# Altium footprint library WL-OCDA.PcbLib: 6 footprints
Each footprint in its own frame and in the unit in brackets; x right, y up, seen from the top. Pads: shape width x height; smd on the part's side, far side on the other; paste and mask are expansions set on the pad; w line width, h text height; cw(c..) or ccw(c..) is an arc to the next point about the centre after c.
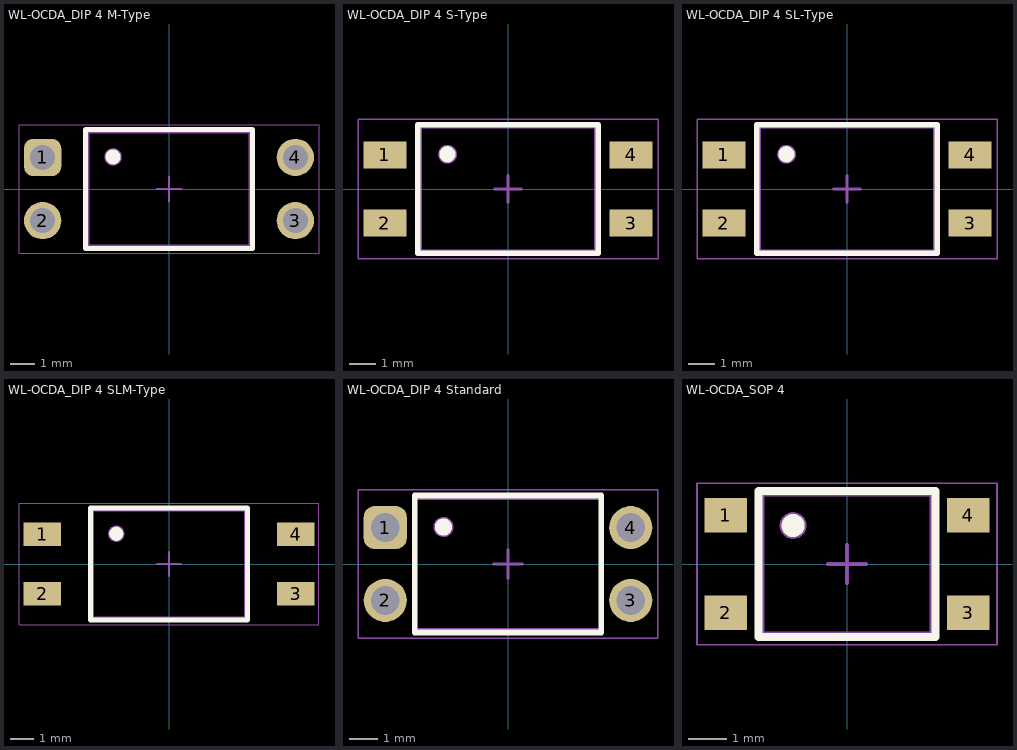
[diagram p0: the footprints below, top view; thin cyan lines are the x and y axes]

## WL-OCDA_DIP 4 M-Type [mm] "Phototransistor, THT, body 10.16x4.58mm"
height 4.58
pads (4):
  rrect50% 1.5x1.5 hole 1: 1(-5.08,1.27)
  round 1.5 hole 1: 2(-5.08,-1.27) 3(5.08,-1.27) 4(5.08,1.27)
Top Overlay:
  circle w0.3: c-2.25,1.29 r0.15
  lines w0.2: -3.35,-2.39 3.35,-2.39 3.35,2.39 -3.35,2.39 -3.35,-2.39
Top Assembly:
  circle w0.1: c-2.25,1.29 r0.3
  lines w0.1: -3.25,-2.29 3.25,-2.29 3.25,2.29 -3.25,2.29 -3.25,-2.29
Top Designator:
  text ".Designator" at -3.647,-0.357 h1
Top Courtyard:
  lines w0.05: -6.03,-2.59 -6.03,2.59 6.03,2.59 6.03,-2.59 -6.03,-2.59
Top Component Center:
  lines w0.1: -0.5,0 0.5,0 ; 0,-0.5 0,0.5
3D body "DIP4_815(M).stp": height 4.25, standoff -2.52, extent -5.205,-2.29 5.205,2.29

## WL-OCDA_DIP 4 S-Type [mm] "Phototransistor, SMT, body 10.15x4.58mm"
height 4.3
pads (4):
  rect 1.6x1 smd: 1(-4.575,1.27) 2(-4.575,-1.27) 3(4.575,-1.27) 4(4.575,1.27)
Top Overlay:
  circle w0.3: c-2.25,1.29 r0.15
  lines w0.2: -3.35,-2.39 3.35,-2.39 3.35,2.39 -3.35,2.39 -3.35,-2.39
Top Assembly:
  circle w0.1: c-2.25,1.29 r0.3
  lines w0.1: -3.25,-2.29 3.25,-2.29 3.25,2.29 -3.25,2.29 -3.25,-2.29
Top Designator:
  text ".Designator" at -3.647,-0.357 h1
Top Courtyard:
  lines w0.05: -5.575,-2.59 -5.575,2.59 5.575,2.59 5.575,-2.59 -5.575,-2.59
Top Component Center:
  lines w0.1: -0.5,0 0.5,0 ; 0,-0.5 0,0.5
3D body "DIP4_815(S).stp": height 4.3, standoff -0.01, extent -5.075,-2.29 5.075,2.29

## WL-OCDA_DIP 4 SL-Type [mm] "Phototransistor, SMT, body 10.15x4.58mm"
height 3.6
pads (4):
  rect 1.6x1 smd: 1(-4.575,1.27) 2(-4.575,-1.27) 3(4.575,-1.27) 4(4.575,1.27)
Top Overlay:
  circle w0.3: c-2.25,1.29 r0.15
  lines w0.2: -3.35,-2.39 3.35,-2.39 3.35,2.39 -3.35,2.39 -3.35,-2.39
Top Assembly:
  circle w0.1: c-2.25,1.29 r0.3
  lines w0.1: -3.25,-2.29 3.25,-2.29 3.25,2.29 -3.25,2.29 -3.25,-2.29
Top Designator:
  text ".Designator" at -3.647,-0.357 h1
Top Courtyard:
  lines w0.05: -5.575,-2.59 -5.575,2.59 5.575,2.59 5.575,-2.59 -5.575,-2.59
Top Component Center:
  lines w0.1: -0.5,0 0.5,0 ; 0,-0.5 0,0.5
3D body "DIP4_815(SL).stp": height 3.6, standoff -0.01, extent -5.075,-2.29 5.075,2.29

## WL-OCDA_DIP 4 SLM-Type [mm] "Phototransistor, SMT, body 10.16x4.58mm"
height 3.75
pads (4):
  rect 1.6x1 smd: 1(-5.4,1.27) 2(-5.4,-1.27) 3(5.4,-1.27) 4(5.4,1.27)
Top Overlay:
  circle w0.3: c-2.25,1.29 r0.15
  lines w0.2: -3.35,-2.39 -3.35,2.39 3.35,2.39 3.35,-2.39 -3.35,-2.39
Top Assembly:
  circle w0.1: c-2.25,1.29 r0.3
  lines w0.1: -3.25,-2.29 -3.25,2.29 3.25,2.29 3.25,-2.29 -3.25,-2.29
Top Designator:
  text ".Designator" at -3.647,-0.357 h1
Top Courtyard:
  lines w0.05: -6.4,-2.59 6.4,-2.59 6.4,2.59 -6.4,2.59 -6.4,-2.59
Top Component Center:
  lines w0.1: -0.5,0 0.5,0 ; 0,-0.5 0,0.5
3D body "DIP4_815(SLM).stp": height 3.75, standoff 0, extent -5.9,-2.29 5.9,2.29

## WL-OCDA_DIP 4 Standard [mm] "Phototransistor, THT, body 7.62x4.58mm"
height 4.5
pads (4):
  rrect50% 1.5x1.5 hole 1: 1(-4.28,1.27)
  round 1.5 hole 1: 2(-4.28,-1.27) 3(4.28,-1.27) 4(4.28,1.27)
Top Overlay:
  circle w0.3: c-2.25,1.29 r0.15
  lines w0.2: -3.25,-2.39 3.25,-2.39 3.25,2.39 -3.25,2.39 -3.25,-2.39
Top Assembly:
  circle w0.1: c-2.25,1.29 r0.3
  lines w0.1: -3.25,-2.29 3.25,-2.29 3.25,2.29 -3.25,2.29 -3.25,-2.29
Top Designator:
  text ".Designator" at -3.647,-0.357 h1
Top Courtyard:
  lines w0.05: -5.23,-2.59 -5.23,2.59 5.23,2.59 5.23,-2.59 -5.23,-2.59
Top Component Center:
  lines w0.1: -0.5,0 0.5,0 ; 0,-0.5 0,0.5
3D body "DIP4_815_Standard.stp": height 4.45, standoff -2.86, extent -4.377,-2.29 4.377,2.29

## WL-OCDA_SOP 4 [mm] "Phototransistor, SMT, body 7x3.6mm"
height 2.1
pads (4):
  rect 1.1x0.9 smd: 1(-3.15,1.27) 2(-3.15,-1.27) 3(3.15,-1.27) 4(3.15,1.27)
Top Overlay:
  circle w0.3: c-1.4,1 r0.15
  lines w0.2: -2.3,-1.9 -2.3,1.9 2.3,1.9 2.3,-1.9 -2.3,-1.9
Top Assembly:
  circle w0.1: c-1.4,1 r0.3
  lines w0.1: -2.2,-1.8 2.2,-1.8 2.2,1.8 -2.2,1.8 -2.2,-1.8
Top Designator:
  text ".Designator" at -3.647,-0.357 h1
Top Courtyard:
  lines w0.05: -3.9,-2.1 3.9,-2.1 3.9,2.1 -3.9,2.1 -3.9,-2.1
Top Component Center:
  lines w0.1: -0.5,0 0.5,0 ; 0,-0.5 0,0.5
3D body "WL-OCDA_141352xxx.stp": height 2.1, standoff 0, extent -3.5,-1.8 3.5,1.8